# EAGLE library part CM6206 (library cmedia)
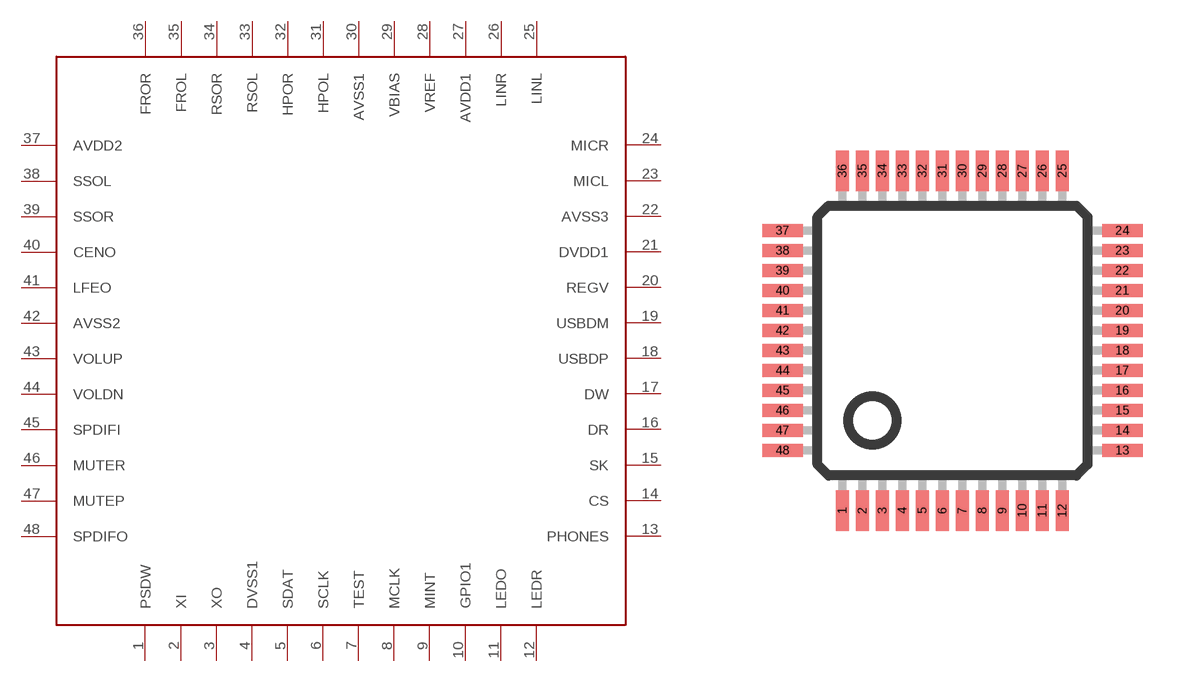
[diagram p3: symbol with the pads of LQFP-48; footprint LQFP-48]

Designator prefix U

## CM6206  [LQFP-48]
1  PSDW
2  XI
3  XO
4  DVSS1
5  SDAT
6  SCLK
7  TEST
8  MCLK
9  MINT
10  GPIO1
11  LEDO
12  LEDR
13  PHONES
14  CS
15  SK
16  DR
17  DW
18  USBDP
19  USBDM
20  REGV
21  DVDD1
22  AVSS3
23  MICL
24  MICR
25  LINL
26  LINR
27  AVDD1
28  VREF
29  VBIAS
30  AVSS1
31  HPOL
32  HPOR
33  RSOL
34  RSOR
35  FROL
36  FROR
37  AVDD2
38  SSOL
39  SSOR
40  CENO
41  LFEO
42  AVSS2
43  VOLUP
44  VOLDN
45  SPDIFI
46  MUTER
47  MUTEP
48  SPDIFO

## Footprint LQFP-48 (pad centres in mm)
smd 0.318 x 1.016: 1 -2.75,-4.25; 2 -2.25,-4.25; 3 -1.75,-4.25; 4 -1.25,-4.25; 5 -0.75,-4.25; 6 -0.25,-4.25; 7 0.25,-4.25; 8 0.75,-4.25; 9 1.25,-4.25; 10 1.75,-4.25; 11 2.25,-4.25; 12 2.75,-4.25; 25 2.75,4.25; 26 2.25,4.25; 27 1.75,4.25; 28 1.25,4.25; 29 0.75,4.25; 30 0.25,4.25; 31 -0.25,4.25; 32 -0.75,4.25; 33 -1.25,4.25; 34 -1.75,4.25; 35 -2.25,4.25; 36 -2.75,4.25
smd 1.016 x 0.318: 13 4.25,-2.75; 14 4.25,-2.25; 15 4.25,-1.75; 16 4.25,-1.25; 17 4.25,-0.75; 18 4.25,-0.25; 19 4.25,0.25; 20 4.25,0.75; 21 4.25,1.25; 22 4.25,1.75; 23 4.25,2.25; 24 4.25,2.75; 37 -4.25,2.75; 38 -4.25,2.25; 39 -4.25,1.75; 40 -4.25,1.25; 41 -4.25,0.75; 42 -4.25,0.25; 43 -4.25,-0.25; 44 -4.25,-0.75; 45 -4.25,-1.25; 46 -4.25,-1.75; 47 -4.25,-2.25; 48 -4.25,-2.75